# Altium schematic symbol library Heat Sink 2 Slot Pads.Schlib: 1 symbol
Pins are listed as number, name and electrical type; pins without a type are passive.

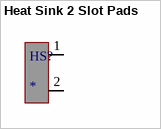
[diagram p0: symbol Heat Sink 2 Slot Pads]

## Heat Sink 2 Slot Pads
designator HS?
footprint Heat Sink 2 Slots
pins: 1, 2